# EAGLE library part CD74HC4002PWR (library CD74HC4002PWR)
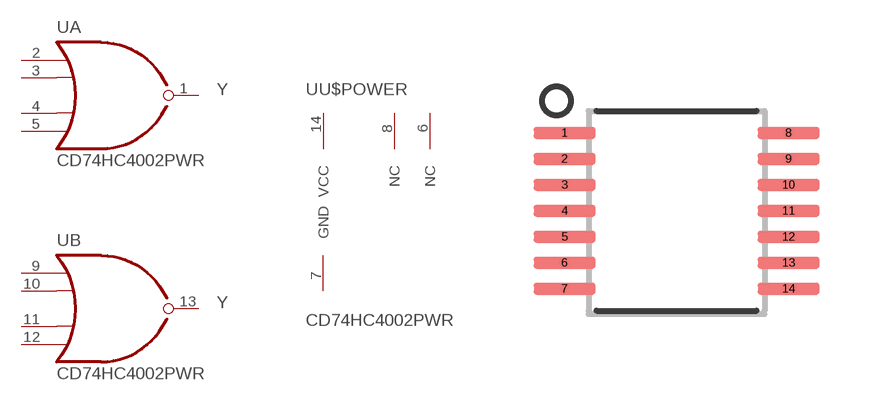
[diagram p0: symbol with the pads of 14-TSSOP; footprint 14-TSSOP]

Designator prefix U; gates A=4NOR B=4NOR U$POWER=POWER

## CD74HC4002PWR  [14-TSSOP]
1  A:Y  out
2  A:A  in
3  A:B  in
4  A:C  in
5  A:D  in
6  U$POWER:NC  nc
7  U$POWER:GND  pwr
8  U$POWER:NC  nc
9  B:A  in
10  B:B  in
11  B:C  in
12  B:D  in
13  B:Y  out
14  U$POWER:VCC  pwr

## Footprint 14-TSSOP (pad centres in mm)
smd 1.55 x 0.3: 1 -2.8,1.95; 2 -2.8,1.3; 3 -2.8,0.65; 4 -2.8,0; 5 -2.8,-0.65; 6 -2.8,-1.3; 7 -2.8,-1.95; 8 2.8,1.95; 9 2.8,1.3; 10 2.8,0.65; 11 2.8,0; 12 2.8,-0.65; 13 2.8,-1.3; 14 2.8,-1.95